# Altium schematic symbol library 11pin.SchLib: 1 symbol
Pins are listed as number, name and electrical type; pins without a type are passive.

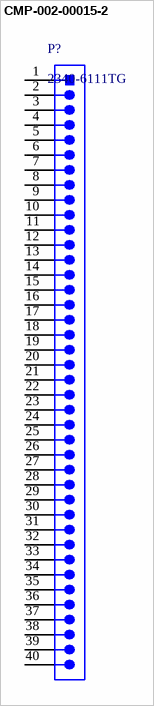
[diagram p0: symbol CMP-002-00015-2]

## CMP-002-00015-2
designator P?, comment 2340-6111TG
Male Header, Pitch 2.54 mm, 1 x 40 Position, Height 8.636 mm, Tail Length 3.05 mm, -55 to 105 degC, RoHS, Bulk; Manufacturer: 3M; Max Current Rating: 3A; Rows: 1; Max Operating Temperature: 105°C; RoHS Compliant: True; Manufacturer URL: http://www.3m.com/; Package Reference: 2340-6111TG; Package Quantity: 200; Min Operating Temperature: -55°C; Package Description: Male Header, Pitch 2.54 mm, 1 x 40 Position, Height 8.636 mm, Tail Length 3.05 mm; Gender: Male; Datasheet URL: https://datasheet.ciiva.com/5161/ts0766-242217-5161112.pdf; Packaging: Bulk; Lead Pitch: 0.1inch; Mounting Technology: TH; Case/Package: 2340-6111TG; Connector Type: Header; Datasheet Version: Aug-08; Pins: 40; Current Rating: 3A; Contact Finish: Gold; Contact Plating: Gold; Colour: Black; Contact Material: Copper
footprint 3M-2340-6111TG_V (THD, 40-Leads, Body 101.6x2.54mm, Pitch 2.54mm)
pins: 1, 2, 3, 4, 5, 6, 7, 8, 9, 10, 11, 12, 13, 14, 15, 16, 17, 18, 19, 20, 21, 22, 23, 24, 25, 26, 27, 28, 29, 30, 31, 32, 33, 34, 35, 36, 37, 38, 39, 40